# Altium integrated library Eink.IntLib: 75 symbols
Pins are listed as number, name and electrical type; pins without a type are passive.

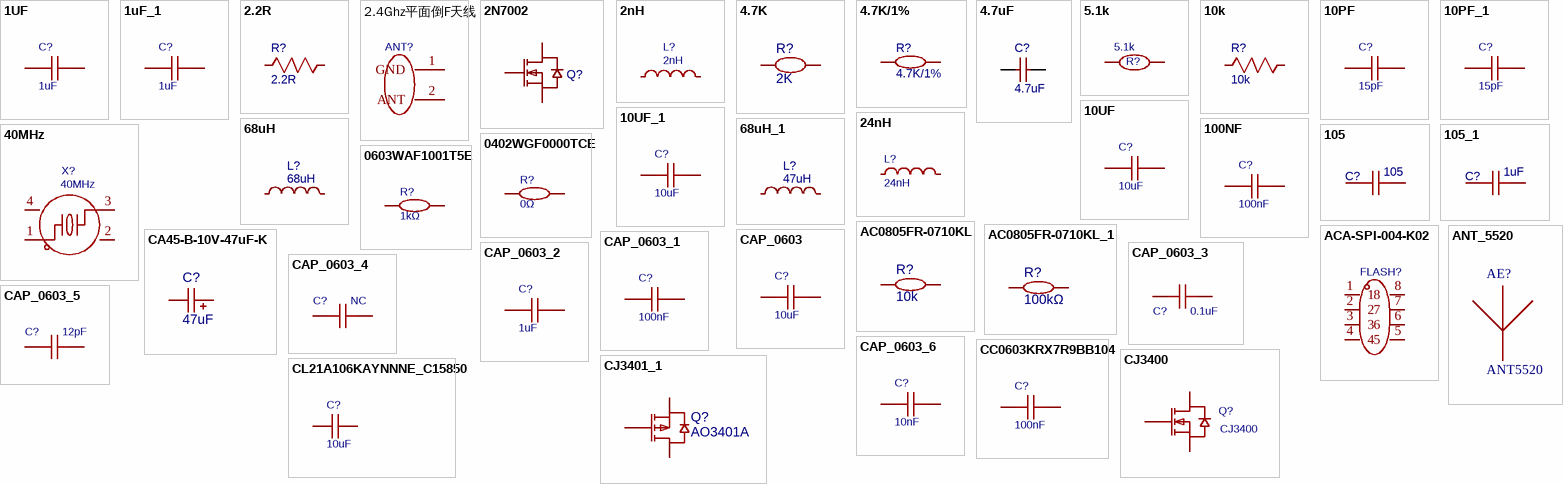
[diagram p0: symbols 1UF to CL21A106KAYNNNE_C15850]

## 1UF
designator C?, comment 1uF
Add into BOM: yes; Origin Footprint: C0603; ModelId: fca5be93b99f4b5a9a2fd372d58c31d9; Symbol: 1UF; Device: 1UF; Convert to PCB: yes; FootprintName: C0603; ModelName: C0603
footprint C0402
pins: 1, 2

## 1uF_1
designator C?, comment 1uF
Add into BOM: yes; Origin Footprint: C0603; ModelId: fca5be93b99f4b5a9a2fd372d58c31d9; Symbol: 1UF; Device: 1UF; Convert to PCB: yes; FootprintName: C0603; ModelName: C0603
footprint C0402
pins: 1, 2

## 2.2R
designator R?
nameAlias: Value(Ω); Contributor: LCEDA_Lib; spicePre: R; spiceSymbolName: R_0603_US
footprint R0603
pins: 1, 2

## 2.4Ghz平面倒F天线
designator ANT?  (value not drawn)
左侧ANT焊盘，2.4Ghz平面倒F天线，尺寸15.2×5.2mm; AddInBom: yes; Device: 2.4Ghz平面倒F天线; ConvertToPcb: yes; SymbolName: 2.4Ghz平面倒F天线; FootprintName: 2.4Ghz平面倒F天线
footprint 2.4Ghz平面倒F天线
pins: 1 GND, 2 ANT

## 2N7002
designator Q?  (value not drawn)
Manufacturer: Nexperia; Manufacturer Part: 2N7002,215; SMT Type: Extend; Contributor: LCEDA_Lib; Supplier: LCSC; image: //image.lceda.cn/szlcsc/C65189.jpg; Supplier Part: C469327; LCSC Assembly: Yes; spicePre: Q; spiceSymbolName: 2N7002
footprint SOT-23_L2.9-W1.3-P0.95-LS2.4-BR
pins: 1 G, 2 S, 3 D

## 2nH
designator L?
Add into BOM: yes; Origin Footprint: L0603; Symbol: 2nH; Device: 2nH; Convert to PCB: yes; FootprintName: L0603
footprint C0402
pins: 1, 2

## 4.7K
designator R?, comment 2K
Symbol: 4.7K; Add into BOM: yes; 3D Model: 6bd5cd867e9542ebae21caaf5d2d4c4d; 3D Model Transform: v2:[2.410722045565656e-15,39.37007874015748,0,-39.37007874015748,2.410722045565656e-15,0,0,0,39.37007874015748,0,0,0]; ModelName: R0603; Device: 4.7K; Convert to PCB: yes; FootprintName: R0603
footprint R0402
3D model R0603
pins: 1, 2

## 4.7K/1%
designator R?
nameAlias: Value(Ω); spicePre: R; spiceSymbolName: Resistor; Supplier: LCSC
footprint 0603_R_JX
pins: 1, 2

## 4.7uF
designator C?
Manufacturer: MuRata; Manufacturer Part: GRM31CR71H475KA12L; nameAlias: Capacitance; SMT Type: Extend; Supplier: LCSC; Supplier Part: C77096; JLCPCB SMD: Yes; spicePre: C; spiceSymbolName: GRM31CR71H475KA12L
footprint C1206_M
pins: 1, 2

## 5.1k
designator R?
Add into BOM: yes; Origin Footprint: R0603; ModelId: fc143cca1e79419f9cd78b61e9279f08; Symbol: 5.1k; Device: 5.1k; Convert to PCB: yes; FootprintName: R0603; ModelName: R0603
footprint R0402
pins: 1, 2

## 10k
designator R?
nameAlias: Value(Ω); Contributor: LCEDA_Lib; spicePre: R; spiceSymbolName: R_0603_US
footprint R0603
pins: 1, 2

## 10PF
designator C?, comment 15pF
Symbol: 10PF; Add into BOM: yes; ModelId: fca5be93b99f4b5a9a2fd372d58c31d9; ModelName: C0603; Device: 10PF; Convert to PCB: yes; FootprintName: C0603
footprint C0402
pins: 1, 2

## 10PF_1
designator C?, comment 15pF
Symbol: 10PF; Add into BOM: yes; ModelId: fca5be93b99f4b5a9a2fd372d58c31d9; ModelName: C0603; Device: 10PF; Convert to PCB: yes; FootprintName: C0603; Origin Footprint: C0603
footprint C0402
pins: 1, 2

## 10UF
designator C?, comment 10uF
Add into BOM: yes; Origin Footprint: C0603; ModelId: fca5be93b99f4b5a9a2fd372d58c31d9; Symbol: 10UF; Device: 10UF; Convert to PCB: yes; FootprintName: C0603; ModelName: C0603
footprint C0402
pins: 1, 2

## 10UF_1
designator C?, comment 10uF
Add into BOM: yes; Origin Footprint: C0603; ModelId: fca5be93b99f4b5a9a2fd372d58c31d9; Symbol: 10UF; Device: 10UF; Convert to PCB: yes; FootprintName: C0603; ModelName: C0603
footprint C0402
pins: 1, 2

## 24nH
designator L?
Add into BOM: yes; Origin Footprint: L0603; Symbol: 24nH; Device: 24nH; Convert to PCB: yes; FootprintName: L0603
footprint C0402
pins: 1, 2

## 40MHz
designator X?
Manufacturer: JGHC(晶光华); Add into BOM: yes; Origin Footprint: CRYSTAL-SMD_4P-L2.5-W2.0-BL; ModelId: d23e0abc26e54c15b6292fd5f43702fa; Symbol: 40MHz; Device: 40MHz; Convert to PCB: yes; Supplier: LCSC; Supplier Part: C555614; JLCPCB Part Class: Extended Part; FootprintName: CRYSTAL-SMD_4P-L2.5-W2.0-BL; ModelName: CRYSTAL-SMD_4P-L2.5-W2.0-BL
footprint CRYSTAL-SMD_4P-L2.5-W2.0-BL
pins: 1, 2 GND, 3, 4 GND

## 68uH
designator L?
Manufacturer: Sunlord; Manufacturer Part: SWPA6045S680MT; nameAlias: Inductance; Supplier: LCSC; Supplier Part: C53663; spicePre: L; spiceSymbolName: SWPA6045S680MT
footprint IND-SMD_L6.0-W6.0_FNR60XXS
footprint L_L3_W3
pins: 1, 2

## 68uH_1
designator L?, comment 47uH
Manufacturer: Sunlord; Manufacturer Part: SWPA6045S680MT; nameAlias: Inductance; Supplier: LCSC; Supplier Part: C53663; spicePre: L; spiceSymbolName: SWPA6045S680MT
footprint IND-SMD_L6.0-W6.0_FNR60XXS
pins: 1, 2

## 100NF
designator C?, comment 100nF
Add into BOM: yes; Origin Footprint: C0603; ModelId: fca5be93b99f4b5a9a2fd372d58c31d9; Symbol: 100NF; Device: 100NF; Convert to PCB: yes; FootprintName: C0603; ModelName: C0603
footprint C0402
pins: 1, 2

## 105
designator C?
nameAlias: Value(F); Contributor: LCEDA_Lib; spicePre: C; spiceSymbolName: C_0603_US
footprint C0603
pins: 1, 2

## 105_1
designator C?, comment 1uF
nameAlias: Value(F); Contributor: LCEDA_Lib; spicePre: C; spiceSymbolName: C_0603_US
footprint C0402
pins: 1, 2

## 0402WGF0000TCE
designator R?, comment value 0Ω  (hidden comment: 0r)
阻值:0Ω;精度:±1%;功率:62.5mW;温度系数:±800ppm/℃;电阻类型:厚膜电阻;; Manufacturer: UNI-ROYAL(厚声); Symbol: 0402WGF0000TCE; AddInBom: yes; ModelId: 671aefced39d4c318694bba8bd8efd39; ModelName: R0402_L1.0-W0.5-H0.5; ModelTransform: 39.37,19.685,0,0,0,0,0,0.0005,0; Tolerance: ±1%; Power(Watts): 62.5mW; Overload Voltage (Max): 50V; JLCPCB Part Class: Basic Part; Device: 0402WGF0000TCE; Supplier: LCSC; Manufacturer Part: 0402WGF0000TCE; Supplier Part: C17168; LCSC Part Name: 0Ω ±1% 62.5mW 厚膜电阻; Supplier Footprint: 0402; Datasheet: https://atta.szlcsc.com/upload/public/pdf/source/20200306/C422600_1E6D84923E4A46A82E41ADD87F860B5C.pdf; ConvertToPcb: yes; FootprintName: R0402; Temperature Coefficient: ±800ppm/℃; Type: 厚膜电阻; Operating Temperature Range: -55℃~+155℃
footprint R0402
pins: 1, 2

## 0603WAF1001T5E
designator R?, comment 1kΩ
电阻类型:厚膜电阻;阻值:1kΩ;精度:±1%;功率:100mW;工作电压:75V;温度系数:±100ppm/℃;; Manufacturer: UNI-ROYAL(厚声); Symbol: 0603WAF1001T5E; Add into BOM: yes; 3D Model: fc143cca1e79419f9cd78b61e9279f08; 3D Model Transform: 31.8897,63.7794,0,90,0,0,0,0,0; Tolerance: ±1%; Power(Watts): 100mW; Voltage-Supply(Max): 75V; ModelName: R0603; Device: 0603WAF1001T5E; Convert to PCB: yes; Supplier Part: C21190; Supplier: LCSC; Manufacturer Part: 0603WAF1001T5E; LCSC Part Name: 1kΩ ±1% 100mW 厚膜电阻; Supplier Footprint: 0603; JLCPCB Part Class: Basic Part; Datasheet: https://item.szlcsc.com/datasheet/0603WAF1001T5E/21904.html; Type: 厚膜电阻; Value: 1kΩ; Temperature Coefficient: ±100ppm/℃; Operating Temperature: -55℃~+155℃; FootprintName: R0603
footprint R0402
3D model R0603
pins: 1, 2

## AC0805FR-0710KL
designator R?, comment 10k
电阻类型:厚膜电阻;阻值:10kΩ;精度:±1%;功率:125mW;; Manufacturer: YAGEO(国巨); Symbol: 10K_1; Device: AC0805FR-0710KL; Add into BOM: yes; Origin Footprint: R0805; Resistance: 10kΩ; 3D Model: 37a81e68749a4138bd2dfa6897b24b85; 3D Model Transform: 78.74,51.181,0,0,0,0,0,-0.0005,0; Value: 10kΩ; Tolerance: ±1%; Power(Watts): 125mW; Temperature Coefficient: ±100ppm/℃; Overload Voltage (Max): 150V; ModelName: R0805_L2.0-W1.3-H0.6; Convert to PCB: yes; LCSC Part Name: 10kΩ ±1% 125mW; Supplier Part: C140868; Manufacturer Part: AC0805FR-0710KL; Supplier Footprint: 0805; JLCPCB Part Class: Extended Part; Datasheet: https://atta.szlcsc.com/upload/public/pdf/source/20171113/C140868_15105613027091115785.pdf; Supplier: LCSC; Type: 厚膜电阻; Operating Temperature Range: -55℃~+155℃; FootprintName: R0603
footprint R0402
3D model R0805_L2.0-W1.3-H0.6
pins: 1, 2

## AC0805FR-0710KL_1
designator R?, comment 100kΩ
电阻类型:厚膜电阻;阻值:10kΩ;精度:±1%;功率:125mW;; Manufacturer: YAGEO(国巨); Symbol: 10K_1; Device: AC0805FR-0710KL; Add into BOM: yes; Origin Footprint: R0805; 3D Model: 37a81e68749a4138bd2dfa6897b24b85; 3D Model Transform: 78.74,51.181,0,0,0,0,0,-0.0005,0; Tolerance: ±1%; Power(Watts): 125mW; Temperature Coefficient: ±100ppm/℃; Overload Voltage (Max): 150V; ModelName: R0805_L2.0-W1.3-H0.6; Convert to PCB: yes; Value: 100kΩ; Resistance: 100kΩ; LCSC Part Name: 10kΩ ±1% 125mW; Manufacturer Part: AC0805FR-0710KL; Supplier Footprint: 0805; JLCPCB Part Class: Extended Part; Datasheet: https://atta.szlcsc.com/upload/public/pdf/source/20171113/C140868_15105613027091115785.pdf; Supplier: LCSC; Type: 厚膜电阻; Operating Temperature Range: -55℃~+155℃; FootprintName: R0603
footprint R0402
3D model R0805_L2.0-W1.3-H0.6
pins: 1, 2

## ACA-SPI-004-K02
designator FLASH?  (value not drawn)
Manufacturer: LOTES(嘉澤端子); AddInBom: yes; Symbol: ACA-SPI-004-K02; Device: ACA-SPI-004-K02; LCSC Part Name: SPI 连接器; SupplierPart: C962129; ManufacturerPart: ACA-SPI-004-K02; Supplier Footprint: -; JLCPCB Part Class: 扩展库; Datasheet: https://atta.szlcsc.com/upload/public/pdf/source/20201125/C962129_3BCCA5D90998541809E80F476B537BA8.pdf; Supplier: LCSC; ConvertToPcb: yes; FootprintName: CONN-SMD_ACA-SPI-004-K02
footprint CONN-SMD_ACA-SPI-004-K02
pins: 1, 2, 3, 4, 5, 6, 7, 8

## ANT_5520
designator AE?, comment ANT5520
footprint ANT_5520
pins: 1 ANT, 2

## CA45-B-10V-47uF-K
designator C?, comment 47uF
容值:47uF;精度:±10%;额定电压:10V;等效串联电阻:2.4Ω@100kHz;; Manufacturer: CEC(振华新云); Device: CA45-B-10V-47uF-K; Add into BOM: yes; Origin Footprint: CAP-SMD_L3.5-W2.8-R-RD; 3D Model: b77bd53aeda446d2bdd09b0fdaf9418a; 3D Model Transform: 145.669,110.236,0,0,0,0,0,0,0; Tolerance: ±10%; Rated Voltage: 10V; ModelName: CASE-B_L3.5-W2.8-H1.9; Symbol: 47uF; Convert to PCB: yes; LCSC Part Name: 47uF ±10% 10V; Supplier Part: C136658; Manufacturer Part: CA45-B-10V-47uF-K; Supplier Footprint: CASE-B-3528; JLCPCB Part Class: Extended Part; Datasheet: https://atta.szlcsc.com/upload/public/pdf/source/20171123/C136658_15114108124621137439.pdf; Supplier: LCSC; Value: 47uF; Equivalent Series Resistance(ESR): 2.4Ω@100kHz; Operating Temperature: -55℃~+125℃; FootprintName: CASE-B_3528
footprint C0603
3D model CASE-B_L3.5-W2.8-H1.9
pins: 1, 2

## CAP_0603
designator C?  value 10uF  (hidden comment: CAP_0603)
ConvertToPcb: yes; SymbolName: CapAcitance; ModelId: ac125912035d415993ca9572d50418b1; ModelName: C0603_L1.6-W0.8-H0.8; ModelTransform: 62.992,31.496,0,0,0,0,0,0,0; Device: CAP_0603; AddInBom: yes; Supplier Footprint: 0603; FootprintName: C0402
footprint C0402
pins: 1, 2

## CAP_0603_1
designator C?, comment value 100nF  (hidden comment: CAP_0603)
ConvertToPcb: yes; SymbolName: CapAcitance; ModelId: ac125912035d415993ca9572d50418b1; ModelName: C0603_L1.6-W0.8-H0.8; ModelTransform: 62.992,31.496,0,0,0,0,0,0,0; Device: CAP_0603; AddInBom: yes; Supplier Footprint: 0603; FootprintName: C0402
footprint C0402
pins: 1, 2

## CAP_0603_2
designator C?, comment value 1uF  (hidden comment: CAP_0603)
ConvertToPcb: yes; SymbolName: CapAcitance; ModelId: ac125912035d415993ca9572d50418b1; ModelName: C0603_L1.6-W0.8-H0.8; ModelTransform: 62.992,31.496,0,0,0,0,0,0,0; Device: CAP_0603; AddInBom: yes; Supplier Footprint: 0603; FootprintName: C0402
footprint C0402
pins: 1, 2

## CAP_0603_3
designator C?, comment value 0.1uF  (hidden comment: CAP_0603)
ConvertToPcb: yes; SymbolName: CapAcitance; ModelId: ac125912035d415993ca9572d50418b1; ModelName: C0603_L1.6-W0.8-H0.8; ModelTransform: 62.992,31.496,0,0,0,0,0,0,0; Device: CAP_0603; AddInBom: yes; Supplier Footprint: 0603; FootprintName: C0402
footprint C0402
pins: 1, 2

## CAP_0603_4
designator C?, comment value NC  (hidden comment: CAP_0603)
ConvertToPcb: yes; SymbolName: CapAcitance; ModelId: ac125912035d415993ca9572d50418b1; ModelName: C0603_L1.6-W0.8-H0.8; ModelTransform: 62.992,31.496,0,0,0,0,0,0,0; Device: CAP_0603; AddInBom: yes; Supplier Footprint: 0603; FootprintName: C0402
footprint C0402
pins: 1, 2

## CAP_0603_5
designator C?, comment value 12pF  (hidden comment: CAP_0603)
ConvertToPcb: yes; SymbolName: CapAcitance; ModelId: ac125912035d415993ca9572d50418b1; ModelName: C0603_L1.6-W0.8-H0.8; ModelTransform: 62.992,31.496,0,0,0,0,0,0,0; Device: CAP_0603; AddInBom: yes; Supplier Footprint: 0603; FootprintName: C0402
footprint C0402
pins: 1, 2

## CAP_0603_6
designator C?, comment value 10nF  (hidden comment: CAP_0603)
ConvertToPcb: yes; SymbolName: CapAcitance; ModelId: ac125912035d415993ca9572d50418b1; ModelName: C0603_L1.6-W0.8-H0.8; ModelTransform: 62.992,31.496,0,0,0,0,0,0,0; Device: CAP_0603; AddInBom: yes; Supplier Footprint: 0603; FootprintName: C0402
footprint C0402
pins: 1, 2

## CC0603KRX7R9BB104
designator C?, comment 100nF
容值:100nF;精度:±10%;额定电压:50V;材质(温度系数):X7R;; Manufacturer: YAGEO(国巨); Symbol: CC0603KRX7R9BB104; 3D Model: ac125912035d415993ca9572d50418b1; 3D Model Transform: 62.992,31.496,0,0,0,0,0,0,0; Tolerance: ±10%; Voltage Rated: 50V; Temperature Coefficient: X7R; AddInBom: yes; ModelName: C0603_L1.6-W0.8-H0.8; Device: CC0603KRX7R9BB104; LCSC Part Name: 100nF ±10% 50V; Manufacturer Part: CC0603KRX7R9BB104; Supplier Footprint: 0603; JLCPCB Part Class: 基础库; Datasheet: https://atta.szlcsc.com/upload/public/pdf/source/20180910/C282072_33301C7F631E79921B82A8DAC6BCC5B3.pdf; Supplier: LCSC; Value: 100NF; ConvertToPcb: yes; FootprintName: C0603
footprint C0402
3D model C0603_L1.6-W0.8-H0.8
pins: 1, 2

## CJ3400
designator Q?
类型:N沟道;漏源电压(Vdss):30V;连续漏极电流(Id):5.8A;功率(Pd):350mW;导通电阻(RDS(on)@Vgs,Id):35mΩ@10V,5.8A;阈值电压(Vgs(th)@Id):1.4V@250uA;; Manufacturer: CJ(江苏长电/长晶); AddInBom: yes; ModelId: c62791f0466c4ae2a892c056b845b0ca; ModelName: SOT-23-3P_L2.9-W1.3-H1.0-LS2.4-P0.95; ModelTransform: 98.64468,114.173,0,180,0,0,0,0,0; Type: N沟道; Drain Source Voltage (Vdss): 30V; Power Dissipation (Pd): 350mW; Symbol: CJ3400; Device: CJ3400; LCSC Part Name: N沟道 30V 5.8A; SupplierPart: C19019; ManufacturerPart: CJ3400; Supplier Footprint: SOT-23; JLCPCB Part Class: Extended Part; Datasheet: https://atta.szlcsc.com/upload/public/pdf/source/20140809/1457707205786.pdf; Supplier: LCSC; ConvertToPcb: yes; FootprintName: SOT-23_L2.9-W1.3-P1.90-LS2.4-BR; Continuous Drain Current (Id): 5.8A; Drain Source On Resistance (RDS(on)@Vgs,Id): 35mΩ@10V,5.8A; Gate Threshold Voltage (Vgs(th)@Id): 1.4V@250uA
footprint SOT-23_L2.9-W1.3-P1.90-LS2.4-BR
pins: 1 G, 2 S, 3 D

## CJ3401_1
designator Q?, comment AO3401A
类型:P沟道;漏源电压(Vdss):30V;连续漏极电流(Id):4.2A;功率(Pd):350mW;导通电阻(RDS(on)@Vgs,Id):65mΩ@10V,4.2A;; Manufacturer: CJ(江苏长电/长晶); Symbol: CJ3401; Device: CJ3401_1; Add into BOM: yes; Origin Footprint: SOT-23-3_L2.9-W1.6-P1.90-LS2.8-BR; 3D Model: 89cb27a44ab2466697082bb9fd73a7d0; 3D Model Transform: 110.236,114.173,0,180,0,0,-0.005,0.0005,0; Type: P沟道; Drain Source Voltage (Vdss): 30V; Power Dissipation (Pd): 350mW; Gate Threshold Voltage (Vgs(th)@Id): 1.3V@250uA; ModelName: SOT-23-3L_L2.9-W1.6-H1.1-LS2.8-P0.95; Convert to PCB: yes; LCSC Part Name: P沟道 30V 4.2A; Supplier Part: C13799; Manufacturer Part: CJ3401; Supplier Footprint: SOT-23; JLCPCB Part Class: Extended Part; Datasheet: https://atta.szlcsc.com/upload/public/pdf/source/20140815/1457707217656.pdf; Supplier: LCSC; Continuous Drain Current (Id): 4.2A; Drain Source On Resistance (RDS(on)@Vgs,Id): 65mΩ@10V,4.2A; FootprintName: SOT-23-3_L2.9-W1.6-P1.90-LS2.8-BR_1
footprint SOT-23-3_L2.9-W1.6-P1.90-LS2.8-BR_1
3D model SOT-23-3L_L2.9-W1.6-H1.1-LS2.8-P0.95
pins: 1 G, 2 S, 3 D

## CL21A106KAYNNNE_C15850
designator C?, comment 10uF
容值:10uF;精度:±10%;额定电压:25V;材质(温度系数):X5R;; Manufacturer: SAMSUNG(三星); Symbol: CL21A106KAYNNNE; Device: CL21A106KAYNNNE_C15850; 3D Model: 1ba041120af144c991958decab20d241; 3D Model Transform: 78.74,51.181,0,0,0,0,0,0.0005,0; Tolerance: ±10%; Voltage Rated: 25V; Temperature Coefficient: X5R; AddInBom: yes; ModelName: C0805_L2.0-W1.3-H1.3; LCSC Part Name: 10uF ±10% 25V; Manufacturer Part: CL21A106KAYNNNE; Supplier Footprint: 0805; JLCPCB Part Class: 基础库; Datasheet: https://atta.szlcsc.com/upload/public/pdf/source/20160103/1457707679302.pdf; Supplier: LCSC; Value: 10UF; ConvertToPcb: yes; FootprintName: C0805
footprint C0402
3D model C0805_L2.0-W1.3-H1.3
pins: 1, 2

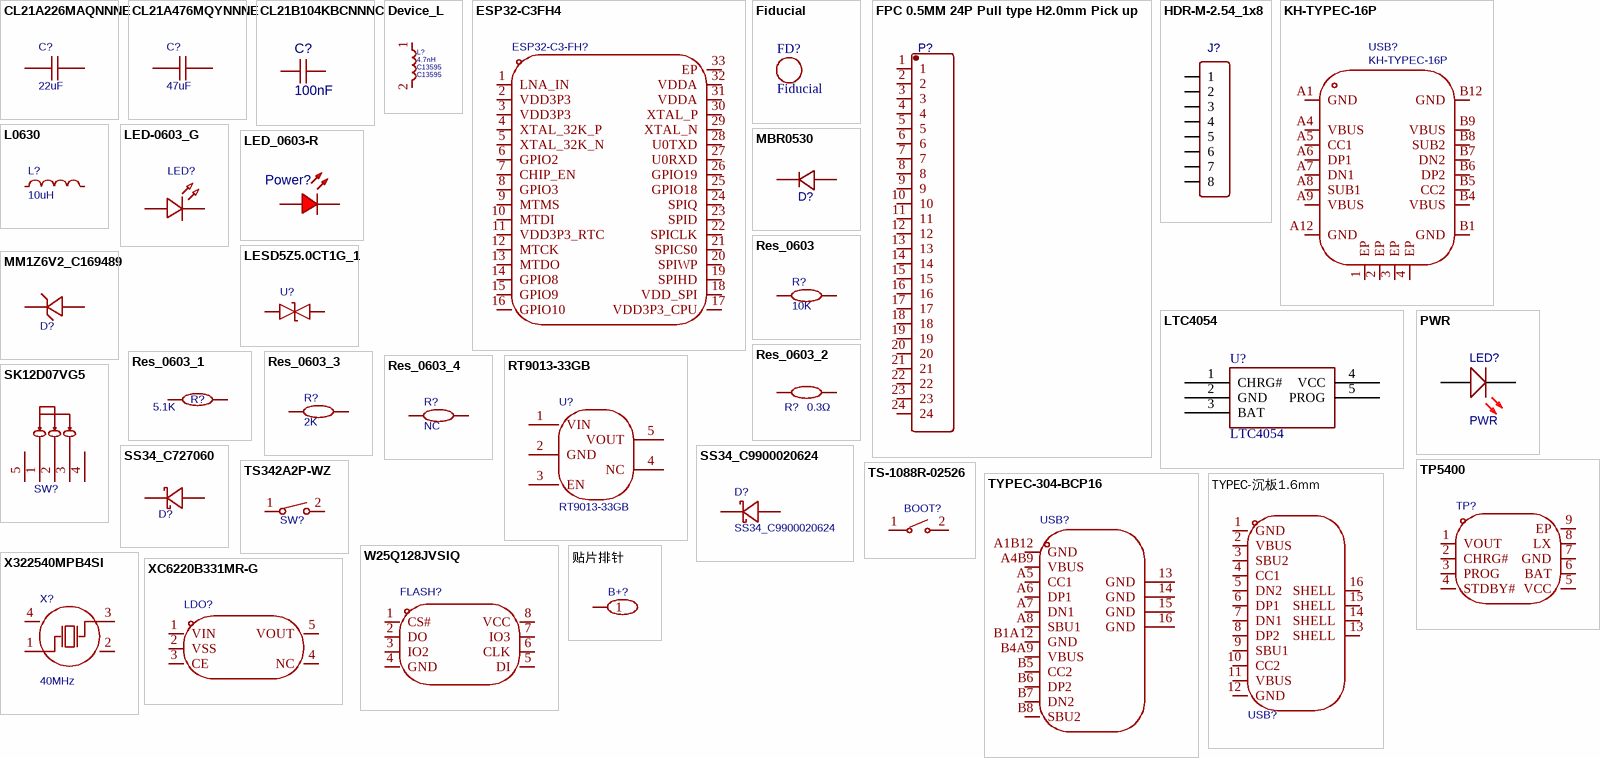
[diagram p1: symbols CL21A226MAQNNNE to 贴片排针]

## CL21A226MAQNNNE
designator C?  value 22uF  (hidden comment: CL21A226MAQNNNE)
容值:22uF;精度:±20%;额定电压:25V;材质(温度系数):X5R;; Manufacturer: SAMSUNG(三星); Symbol: CapAcitance; AddInBom: yes; ModelId: 1ba041120af144c991958decab20d241; ModelName: C0805_L2.0-W1.3-H1.3; ModelTransform: 78.74,51.181,0,0,0,0,0,0.0005,0; Tolerance: ±20%; Voltage Rated: 25V; Temperature Coefficient: X5R; Device: CL21A226MAQNNNE; LCSC Part Name: 22uF ±20% 25V; SupplierPart: C45783; ManufacturerPart: CL21A226MAQNNNE; Supplier Footprint: 0805; JLCPCB Part Class: Basic Part; Datasheet: https://atta.szlcsc.com/upload/public/pdf/source/20160218/1457707763339.pdf; Supplier: LCSC; ConvertToPcb: yes; FootprintName: C0805
footprint C0805
pins: 1, 2

## CL21A476MQYNNNE
designator C?  value 47uF  (hidden comment: CL21A476MQYNNNE)
容值:47uF;精度:±20%;额定电压:6.3V;材质(温度系数):X5R;; Manufacturer: SAMSUNG(三星); Symbol: CapAcitance; AddInBom: yes; ModelId: 1ba041120af144c991958decab20d241; ModelName: C0805_L2.0-W1.3-H1.3; ModelTransform: 78.74,51.181,0,0,0,0,0,0.0005,0; Tolerance: ±20%; Voltage Rated: 6.3V; Temperature Coefficient: X5R; Device: CL21A476MQYNNNE; LCSC Part Name: 47uF ±20% 6.3V; SupplierPart: C16780; ManufacturerPart: CL21A476MQYNNNE; Supplier Footprint: 0805; JLCPCB Part Class: Basic Part; Datasheet: https://atta.szlcsc.com/upload/public/pdf/source/20160218/1457707763339.pdf; Supplier: LCSC; ConvertToPcb: yes; FootprintName: C0805
footprint C0805
pins: 1, 2

## CL21B104KBCNNNC
designator C?, comment 100nF
容值:100nF;精度:±10%;额定电压:50V;材质(温度系数):X7R;; Manufacturer: SAMSUNG(三星); Symbol: 100nF_1; Device: CL21B104KBCNNNC; Add into BOM: yes; Origin Footprint: C0805; 3D Model: 1ba041120af144c991958decab20d241; 3D Model Transform: 78.74,51.181,0,0,0,0,0,0.0005,0; Tolerance: ±10%; Voltage Rated: 50V; Temperature Coefficient: X7R; ModelName: C0805_L2.0-W1.3-H1.3; Convert to PCB: yes; LCSC Part Name: 100nF ±10% 50V; Supplier Part: C1711; Manufacturer Part: CL21B104KBCNNNC; Supplier Footprint: 0805; JLCPCB Part Class: Extended Part; Datasheet: https://atta.szlcsc.com/upload/public/pdf/source/20160103/1457707693305.pdf; Supplier: LCSC; Value: 100nF; FootprintName: C0603
footprint C0402
3D model C0805_L2.0-W1.3-H1.3
pins: 1, 2

## Device_L
designator L?, comment value 4.7nH  MNF PART NUMBER: C13595  (hidden comment: 3nH)
Inductor; Device: Device_L; ki_keywords: inductor choke coil reactor magnetic; ki_fp_filters: Choke_* *Coil* Inductor_* L_*; UniqueId: 01f5988480b85854; Attribute1: L6; AddInBom: yes; Symbol: Device_L; UserDocLink: ~; LCSC: C13595; FootprintName: Inductor_SMD:L_0402_1005Metric
footprint C0402
pins: 1, 2

## ESP32-C3FH4
designator ESP32-C3-FH?  (value not drawn)
Manufacturer: ESPRESSIF(乐鑫); AddInBom: yes; ModelId: 1b373353bf024628a0546c2e0a05c449; ModelName: QFN-32_L5.0-W5.0-H0.9-P0.50-TL-EP3.7; ModelTransform: 196.85,196.85,0,0,0,0,0,0,0; Symbol: ESP32-C3FH4; Device: ESP32-C3FH4; Supplier: LCSC; Supplier Part: C2858491; Manufacturer Part: ESP32-C3FH4; JLCPCB Part Class: 扩展库; LCSC Part Name: ESP32-C3FH4; Supplier Footprint: QFN-32-EP(5x5); Datasheet: https://atta.szlcsc.com/upload/public/pdf/source/20231220/86199E4714F7A99F6AA9401EA48CDBDA.pdf; ConvertToPcb: yes; FootprintName: QFN-32_L5.0-W5.0-P0.50-TL-EP3.7
footprint QFN-32_L5.0-W5.0-P0.50-TL-EP3.7
pins: 1 LNA_IN, 2 VDD3P3, 3 VDD3P3, 4 XTAL_32K_P, 5 XTAL_32K_N, 6 GPIO2, 7 CHIP_EN, 8 GPIO3, 9 MTMS, 10 MTDI, 11 VDD3P3_RTC, 12 MTCK, 13 MTDO, 14 GPIO8, 15 GPIO9, 16 GPIO10, 17 VDD3P3_CPU, 18 VDD_SPI, 19 SPIHD, 20 SPIWP, 21 SPICS0, 22 SPICLK, 23 SPID, 24 SPIQ, 25 GPIO18, 26 GPIO19, 27 U0RXD, 28 U0TXD, 29 XTAL_N, 30 XTAL_P, 31 VDDA, 32 VDDA, 33 EP

## Fiducial
designator FD?
footprint FIDUCIAL_1MM

## FPC 0.5MM 24P Pull type H2.0mm Pick up
designator P?  (value not drawn)
Manufacturer: ReliaPro; spicePre: X; Supplier: LCSC; Manufacturer Part: FPC 0.5MM 24P Pull type H2.0mm Pick up; image: //image.lceda.cn/szlcsc/C11092.jpg; Supplier Part: C11092; spiceSymbolName: FPC 0.5MM 24P Pull type H2.0mm Pick up
footprint FPC-SMD_24P-L17.5-W5.4-P0.50
pins: 1, 2, 3, 4, 5, 6, 7, 8, 9, 10, 11, 12, 13, 14, 15, 16, 17, 18, 19, 20, 21, 22, 23, 24

## HDR-M-2.54_1x8
designator J?  (value not drawn)
Contributor: LCEDA_Lib; Supplier Part: C190820; Supplier: LCSC; spicePre: J; spiceSymbolName: HDR-M-2.54_1x8
footprint HDR-M-2.54_1X8
pins: 1, 2, 3, 4, 5, 6, 7, 8

## KH-TYPEC-16P
designator USB?
Add into BOM: yes; Origin Footprint: USB-TYPEC-16P-SMD; 是否验证: 是; Symbol: KH-TYPEC-16P; Device: KH-TYPEC-16P; Convert to PCB: yes; FootprintName: USB-TYPEC-16P
footprint USB-TYPEC-16P-SMD
pins: 1 EP, 2 EP, 3 EP, 4 EP, A1 GND, A4 VBUS, A5 CC1, A6 DP1, A7 DN1, A8 SUB1, A9 VBUS, A12 GND, B1 GND, B4 VBUS, B5 CC2, B6 DP2, B7 DN2, B8 SUB2, B9 VBUS, B12 GND

## L0630
designator L?  value 10uH  (hidden comment: L0630)
电感值:4.7uH;精度:±20%;额定电流:5.5A;饱和电流(Isat):7A;直流电阻(DCR):37mΩ;; Manufacturer: PSA(信昌电陶); ManufacturerPart: MCS0630-4R7MPY1; Symbol: SDFL1608S100KTF; AddInBom: yes; ModelId: f365aa58eec94c2a8dfc1404764b7425; ModelName: IND-SMD_L7.1-W6.6-H2.8; ModelTransform: 279.5,259.8,0,0,0,0,0,0,0; Tolerance: ±20%; Rated Current: 5.5A; Saturation Current (Isat): 7A; DC Resistance (DCR): 37mΩ; Device: L0630; Supplier Footprint: 0630; JLCPCB Part Class: Extended Part; Datasheet: https://atta.szlcsc.com/upload/public/pdf/source/20220121/EA6E6E6F70ED7BAE67EC293805EAAACB.pdf; Supplier: LCSC; ConvertToPcb: yes; FootprintName: IND-SMD_L7.3-W6.6
footprint IND-SMD_L7.3-W6.6
pins: 1, 2

## LED-0603_G
designator LED?  (value not drawn)
Manufacturer: EVERLIGHT(台湾亿光); Manufacturer Part: 19-217/GHC-YR1S2/3T; Add into BOM: yes; Origin Footprint: LED0603_GREEN; ModelId: 8b5fcaf0229049f8a37a9c352bb0ca0a; Symbol: LED-0603_G; Device: LED-0603_G; Convert to PCB: yes; Supplier Part: C72043; Supplier: LCSC; FootprintName: LED0603_GREEN; ModelName: LED-0603_G
footprint C0402
pins: 1, 2

## LED_0603-R
designator Power?
发光颜色:红灯;二极管配置:-;透镜颜色:无色透明;主波长:617.5nm;峰值波长:632nm;色温:-;光通量(25时):-;测试电流:5mA;正向电压(VF):2.2V;发光强度:28.5mcd;功率:60mW;发光角度:120°;安装方式:-;工作温度:-40~+85;; Symbol: LED_R; Convert to PCB: yes; 3D Model: dd8257b0d61a4cd7b68939a056e08095; 3D Model Transform: 58.72,29.4,22.03,0,0,0,0,0,0; Device: LED_0603-R; ModelName: LED-0603_R; Add into BOM: yes; Supplier Footprint: 0603; FootprintName: LED0603-RD_BLUE
footprint LED0603-RD_BLUE
3D model LED-0603_R
pins: 1 C, 2 A

## LESD5Z5.0CT1G_1
designator U?  (value not drawn)
极性:-;反向关断电压（典型值）:-;击穿电压（最小值）:-;箝位电压:-;峰值脉冲电流（10/1000us）:-;; Manufacturer: UMW(友台半导体); Symbol: LESD5Z5.0CT1G_C2833276; AddInBom: yes; ModelId: 8f56a03db567494d8f4c9d12aa52a741; ModelName: SOD-523_L1.2-W0.8-H0.7-LS1.6; ModelTransform: 62.992,31.496,0,0,0,0,0,0,0; Device: LESD5Z5.0CT1G_1; LCSC Part Name: LESD5Z5.0CT1G; SupplierPart: C2833276; ManufacturerPart: LESD5Z5.0CT1G; Supplier Footprint: SOD-523; Datasheet: https://atta.szlcsc.com/upload/public/pdf/source/20210528/C2833276_72F026E6C5BE6518124884AE424ECC3B.pdf; Supplier: LCSC; ConvertToPcb: yes; FootprintName: SOD-523_L1.2-W0.8-LS1.6-BI; Polarity: -; Voltage - Reverse Standoff (Typ): -; Voltage - Breakdown (Min): -; Voltage - Clamping (Max) @ Ipp: -; Current - Peak Pulse (10/1000μs): -
footprint SOD-523_L1.2-W0.8-LS1.6-BI
pins: 1, 2

## LTC4054
designator U?
footprint SOT-23-5_L3.0-W1.7-P0.95-LS2.8-BL
pins: 1 CHRG#, 2 GND, 3 BAT, 4 VCC, 5 PROG

## MBR0530
designator D?  (value not drawn)
Manufacturer: CJ; SMT Type: Extend; Supplier: LCSC; Manufacturer Part: MBR0530; image: //image.lceda.cn/szlcsc/C77336.jpg; Supplier Part: C77336; LCSC Assembly: Yes; spicePre: D; spiceSymbolName: MBR0530
footprint SOD-123_L2.8-W1.8-LS3.7-RD
pins: 1 C, 2 A

## MM1Z6V2_C169489
designator D?  (value not drawn)
二极管配置:独立式;稳压值(标称值):6.2V;稳压值(范围):5.8V~6.6V;功率:500mW;精度:±6%;; Manufacturer: 晶导微电子; AddInBom: yes; ModelId: 7884390a25fb4c08947731ebfba7e3f8; ModelName: SOD-123_L2.8-W1.8-LS3.7-RD; ModelTransform: 144.8816,62.992,0,0,0,0,0,0,0; Diode Configuration: 独立式; Zener Voltage (Nom): 6.2V; Reverse Leakage Current (Ir): 1uA@3V; Power Dissipation: 500mW; Zener Impedance (Zzt): 50Ω; Tolerance: ±6%; Symbol: MM1Z6V2_C169489; Device: MM1Z6V2_C169489; Supplier: LCSC; Supplier Part: C169489; Manufacturer Part: MM1Z6V2; JLCPCB Part Class: 扩展库; LCSC Part Name: MM1Z6V2; Supplier Footprint: SOD-123; Datasheet: https://atta.szlcsc.com/upload/public/pdf/source/20190326/C382779_93A8490AC8548BE170FED91286A619FB.pdf; ConvertToPcb: yes; FootprintName: SOD-123_L2.8-W1.8-LS3.7-RD; Zener Voltage (Range): 5.8V~6.6V
footprint SOD-123_L2.8-W1.8-LS3.7-RD
pins: 1, 2

## PWR
designator LED?
Supplier: LCSC; spicePre: L
footprint 0603_D_JX
pins: 1 A, 2 C

## Res_0603
designator R?  value 10K  (hidden comment: Res_0603)
Symbol: 电阻; ConvertToPcb: yes; ModelId: fc143cca1e79419f9cd78b61e9279f08; ModelName: R0603; ModelTransform: 31.8897,63.7794,0,90,0,0,0,0,0; Device: Res_0603; AddInBom: yes; Supplier Footprint: 0603; FootprintName: R0402
footprint R0402
pins: 1, 2

## Res_0603_1
designator R?, comment value 5.1K  (hidden comment: Res_0603)
Symbol: 电阻; ConvertToPcb: yes; ModelId: fc143cca1e79419f9cd78b61e9279f08; ModelName: R0603; ModelTransform: 31.8897,63.7794,0,90,0,0,0,0,0; Device: Res_0603; AddInBom: yes; Supplier Footprint: 0603; FootprintName: R0402
footprint R0402
pins: 1, 2

## Res_0603_2
designator R?, comment value 0.3Ω  (hidden comment: Res_0603)
Symbol: 电阻; ConvertToPcb: yes; ModelId: fc143cca1e79419f9cd78b61e9279f08; ModelName: R0603; ModelTransform: 31.8897,63.7794,0,90,0,0,0,0,0; Device: Res_0603; AddInBom: yes; Supplier Footprint: 0603; FootprintName: R0603
footprint R0603
pins: 1, 2

## Res_0603_3
designator R?, comment value 2K  (hidden comment: Res_0603)
Symbol: 电阻; ConvertToPcb: yes; ModelId: fc143cca1e79419f9cd78b61e9279f08; ModelName: R0603; ModelTransform: 31.8897,63.7794,0,90,0,0,0,0,0; Device: Res_0603; AddInBom: yes; Supplier Footprint: 0603; FootprintName: R0402
footprint R0402
pins: 1, 2

## Res_0603_4
designator R?, comment value NC  (hidden comment: Res_0603)
Symbol: 电阻; ConvertToPcb: yes; ModelId: fc143cca1e79419f9cd78b61e9279f08; ModelName: R0603; ModelTransform: 31.8897,63.7794,0,90,0,0,0,0,0; Device: Res_0603; AddInBom: yes; Supplier Footprint: 0603; FootprintName: R0402
footprint R0402
pins: 1, 2

## RT9013-33GB
designator U?
输出类型:固定;输出极性:正;最大输入电压:5.5V;输出电压:3.3V;输出电流:500mA;电源纹波抑制比(PSRR):50dB@(10kHz);; Manufacturer: RICHTEK(立锜); 3D Model: 0a2a1b8f50944f73965918ad6e5fe167; 3D Model Transform: 118.60433,114.173,0,90,0,0,0.0005,0.0005,0; Output Type: 固定; Output Polarity: 正; Number of Outputs: 1; Maximum Input Voltage: 5.5V; Output Voltage: 3.3V; Dropout Voltage: 400mV@(500mA); Quiescent Current (Ground Current): 50uA; Output Current: 500mA; AddInBom: yes; ModelName: SOT-23-5_L2.9-W1.6-H1.1-LS2.8-P0.95; Symbol: RT9013-33GB; Device: RT9013-33GB; LCSC Part Name: 输入5.5V 输出3.3V 500mA; Supplier Footprint: SOT-23-5; Datasheet: https://atta.szlcsc.com/upload/public/pdf/source/20150504/1457707282459.pdf; Power Supply Rejection Ratio (PSRR): 50dB@(10kHz); Noise: -; Feature: -; Operating Temperature: -40℃~+85℃; Supplier: LCSC; Manufacturer Part: RT9013-33GB; Supplier Part: C47773; JLCPCB Part Class: 扩展库; ConvertToPcb: yes; FootprintName: SOT-23-5_L3.0-W1.7-P0.95-LS2.8-BL
footprint SOT-23-5_L3.0-W1.7-P0.95-LS2.8-BL
3D model SOT-23-5_L2.9-W1.6-H1.1-LS2.8-P0.95
pins: 1 VIN, 2 GND, 3 EN, 4 NC, 5 VOUT

## SK12D07VG5
designator SW?  (value not drawn)
电路结构:单刀双掷;安装方式:侧插;开关颜色:-;额定电流(DC):500mA;额定电压(DC):50V;额定电流(AC):-;额定电压(AC):-;机械寿命:5千次;; Manufacturer: SHOU HAN(首韩); AddInBom: yes; ModelId: 773c51563d484e3a80810244c5d56a16; ModelName: SW-TH_L8.7-W4.4-H4.0-P2.0; ModelTransform: 338.582,279.527,0,0,0,0,0,-51.181,-125.984; Circuit: 单刀双掷; Pin Style: PC引脚; Switch Length: 8.7mm; Switch Width: 4.4mm; Switch Height: 4.7mm; Current Rating (DC): 500mA; Voltage Rating (DC): 50V; Mechanical Life: 5千次; Symbol: SK12D07VG5; Device: SK12D07VG5; Supplier: LCSC; Supplier Part: C431548; Manufacturer Part: SK12D07VG5; JLCPCB Part Class: 扩展库; LCSC Part Name: 两档位卧式拨动开关,柄长5MM; Supplier Footprint: 插件; Datasheet: https://atta.szlcsc.com/upload/public/pdf/source/20190925/C431548_D6571AEBDE139FDB1E6F8A4B1513A630.pdf; ConvertToPcb: yes; FootprintName: SW-TH_SK12D07VG5; Actuator Style: -; Mounting Style: 侧插; Actuator Color: -; Current Rating (AC): -; Voltage Rating (AC): -; Operating Temperature: -10℃~+50℃
footprint SW-TH_SK12D07VG5
pins: 1, 2, 3, 4, 5

## SS34_C727060
designator D?  (value not drawn)
二极管配置:独立式;正向压降(Vf):550mV@3A;直流反向耐压(Vr):40V;平均整流电流(Io):3A;; Manufacturer: TWGMC(台湾迪嘉); Manufacturer Part: SS34; AddInBom: yes; ModelId: 5b53cc1b87a148cc9fa13125be89f948; ModelName: SMA_L4.3-W2.5-LS5.0-RD; ModelTransform: 194.8815,98.425,0,0,0,0,0,0,0; Diode Configuration: 独立式; Reverse Voltage (Vr): 40V; Average Rectified Current (Io): 3A; Reverse Leakage Current (Ir): 500uA@40V; Symbol: SS34_C727060; Device: SS34_C727060; Supplier: LCSC; Supplier Part: C727060; JLCPCB Part Class: 扩展库; LCSC Part Name: 电压:40V 电流:3A; Supplier Footprint: SMA(DO-214AC); Datasheet: https://atta.szlcsc.com/upload/public/pdf/source/20200828/C727059_6599B6CAC5F3238B9C33E46794659DBE.pdf; ConvertToPcb: yes; FootprintName: SMA_L4.3-W2.5-LS5.0-RD; Forward Voltage (Vf@If): 550mV@3A
footprint SMA_L4.3-W2.5-LS5.0-RD
pins: 1 C, 2 A

## SS34_C9900020624
designator D?
Manufacturer: null; Add into BOM: yes; Origin Footprint: SMA_L4.3-W2.6-LS5.1-R-RD; ModelId: 6890bb9641474820a71fce2135ca3aaa; Symbol: SS34_C9900020624; Device: SS34_C9900020624; Convert to PCB: yes; Supplier: LCSC; Supplier Part: C9900020624; JLCPCB Part Class: Extended Part; FootprintName: SMA_L4.3-W2.6-LS5.1-R-RD; ModelName: SMA_L4.3-W2.6-LS5.1-R-RD
footprint SMA_L4.3-W2.6-LS5.1-R-RD
pins: 1 A, 2 K

## TP5400
designator TP?  (value not drawn)
Manufacturer: TOPPOWER(南京拓微); Symbol: TP5400_C2891434; AddInBom: yes; ModelId: d3e00daa36c445139c055a3b9efb85d2; ModelName: ESOP-8_L4.9-W3.9-H1.6-LS6.0-P1.27; ModelTransform: 240.157,192.913,0,90,0,0,0,0,0; Device: TP5400; LCSC Part Name: TP5400; SupplierPart: C2891434; ManufacturerPart: TP5400; Supplier Footprint: ESOP-8; JLCPCB Part Class: 扩展库; Datasheet: https://atta.szlcsc.com/upload/public/pdf/source/20210909/352D9D40D77A1DD73F7904E364EF004B.pdf; Supplier: LCSC; ConvertToPcb: yes; FootprintName: ESOP-8_L4.9-W3.9-P1.27-LS6.0-BL-EP
footprint ESOP-8_L4.9-W3.9-P1.27-LS6.0-BL-EP
pins: 1 VOUT, 2 CHRG#, 3 PROG, 4 STDBY#, 5 VCC, 6 BAT, 7 GND, 8 LX, 9 EP

## TS342A2P-WZ
designator SW?  (value not drawn)
Manufacturer: SHOU HAN(首韩); AddInBom: yes; ModelId: 63599cce708d48afbce1b0db00354477; ModelName: SW-SMD_L4.0-W2.9-H2-LS5.0; ModelTransform: 196.85,114.173,0,0,0,0,0,0,0; Symbol: TS342A2P-WZ; Device: TS342A2P-WZ; LCSC Part Name: 轻触开关 3*4*2 两脚小龟不带柱 250gf 黑色塑胶按钮; SupplierPart: C557591; ManufacturerPart: TS342A2P-WZ; Supplier Footprint: SMD; JLCPCB Part Class: Extended Part; Datasheet: https://atta.szlcsc.com/upload/public/pdf/source/20200519/C557591_B3A5A21584733303F06306F18577DA8B.pdf; Supplier: LCSC; ConvertToPcb: yes; FootprintName: SW-SMD_L4.0-W2.9-LS5.0
footprint SW-SMD_L4.0-W2.9-LS5.0
pins: 1, 2

## TS-1088R-02526
designator BOOT?  (value not drawn)
触点电流:50mA;额定电压(DC):12V;电路结构:单刀单掷;安装方式:立贴;按钮形状:圆形按钮;带灯:-;开关长度:3.9mm;开关宽度:2.93mm;开关高度:2.5mm;; Manufacturer: XUNPU(讯普); AddInBom: yes; ModelId: b26698b69f274ffabef8a26c7d0e5dd1; ModelName: SW-SMD_L3.9-W2.9-H2.0-LS4.8; ModelTransform: 188.976,114.174,0,0,0,0,0,0,0; Contact Current: 50mA; Voltage Rating (DC): 12V; Circuit: 单刀单掷; Actuator Style: 圆形按钮; Switch Length: 3.9mm; Switch Width: 2.93mm; Switch Height: 2.5mm; Symbol: TS-1088R-02526; Device: TS-1088R-02526; LCSC Part Name: 贴片无柱小龟轻触开关 260GF; SupplierPart: C455281; ManufacturerPart: TS-1088R-02526; Supplier Footprint: SMD,3x4x2.5mm; JLCPCB Part Class: 扩展库; Datasheet: https://atta.szlcsc.com/upload/public/pdf/source/20191118/C455281_EC5379764BC1462550DF64BBBFEA9579.pdf; Supplier: LCSC; ConvertToPcb: yes; FootprintName: SW-SMD_L3.9-W3.0-P4.45; Mounting Style: 立贴; With Lamp: -
footprint SW-SMD_L3.9-W3.0-P4.45
pins: 1, 2

## TYPEC-304-BCP16
designator USB?  (value not drawn)
连接器类型:Type-C;标准:USB 3.1;公母:母座;触点数量:16;端口数量:1;安装方式:卧贴;额定电流 - 电源:3A;工作温度范围:-25~+85;焊接温度(最大值):260;; Manufacturer: XUNPU(讯普); Welding Temperature (Max): 260; AddInBom: yes; ModelId: bb1eabbfbdeb4e438a7034f2ad448367; ModelName: USB-C-SMD_TYPEC-304-BCP16; ModelTransform: 352,305.1,0,0,0,0,0,-47.6,-39.4; Connector Type: Type-C; Gender: 母座; Number of Contacts: 16; Number of Ports: 1; Current Rating - Power (Max): 3A; Symbol: TYPEC-304-BCP16; Operating Temperature Range: -25~+85; Device: TYPEC-304-BCP16; LCSC Part Name: Type-C 母座 卧贴 停产 停产; SupplierPart: C720629; ManufacturerPart: TYPEC-304-BCP16; Supplier Footprint: SMD; JLCPCB Part Class: 扩展库; Datasheet: https://atta.szlcsc.com/upload/public/pdf/source/20220210/1FE0FEFF7D6A20C111212527D3DED014.pdf; Supplier: LCSC; ConvertToPcb: yes; FootprintName: USB-C-SMD_TYPEC-304-BCP16; Standard: USB 3.1; Mounting Style: 卧贴
footprint USB-C-SMD_TYPEC-304-BCP16
footprint USB-C-SMD_TYPEC-302-BRP16SC16
pins: 13 GND, 14 GND, 15 GND, 16 GND, A1B12 GND, A4B9 VBUS, A5 CC1, A6 DP1, A7 DN1, A8 SBU1, B1A12 GND, B4A9 VBUS, B5 CC2, B6 DP2, B7 DN2, B8 SBU2

## TYPEC-沉板1.6mm
designator USB?  (value not drawn)
连接器类型:Type-C;标准:USB 3.1;公母:母;端口数量:1;触点数量:16P;安装方式:沉板;额定电流 - 电源:5A;工作温度范围:-45℃~+85℃;焊接温度(最大值):260℃;; Manufacturer: XUNPU(讯普); ManufacturerPart: TYPEC-302-BRP16SC16; AddInBom: yes; ModelId: 83e9ad9c543d46a9a9a2dd567b3f71cf; ModelName: USB-C-SMD_TYPEC-302-BRP16SC16; ModelTransform: 454.33,283.464,0,0,0,0,0,-41.337,-62.992; Connector Type: Type-C; Gender: 母; Number of Ports: 1; Number of Contacts: 16P; Current Rating - Power (Max): 5A; Soldering Temperature(Max): 260℃; Symbol: TYPEC-沉板1.6mm; Device: TYPEC-沉板1.6mm; LCSC Part Name: Type-C 母 沉板; SupplierPart: C2835313; Supplier Footprint: SMD; JLCPCB Part Class: Extended Part; Datasheet: https://atta.szlcsc.com/upload/public/pdf/source/20210629/C2835313_96CAAD9C15DFF4F1D03DDC0B4E6AD92A.pdf; Supplier: LCSC; ConvertToPcb: yes; FootprintName: USB-C-SMD_TYPEC-302-BRP16SC16; Standard: USB 3.1; Mounting Style: 沉板; Operating Temperature Range: -45℃~+85℃
footprint USB-C-SMD_TYPEC-302-BRP16SC16
pins: 1 GND, 2 VBUS, 3 SBU2, 4 CC1, 5 DN2, 6 DP1, 7 DN1, 8 DP2, 9 SBU1, 10 CC2, 11 VBUS, 12 GND, 13 SHELL, 14 SHELL, 15 SHELL, 16 SHELL

## W25Q128JVSIQ
designator FLASH?  (value not drawn)
接口类型:-;存储容量:128Mbit;时钟频率(fc):-;; Manufacturer: WINBOND(华邦); Symbol: W25Q128JVSIQTR; AddInBom: yes; ModelId: f83d990ad74f400caf5ac920b7771508; ModelName: SOIC-8_L5.3-W5.3-H1.9-LS7.9-P1.27; ModelTransform: 208.661,311.25654,0,0,0,0,-0.0005,0.0005,0; Device: W25Q128JVSIQ; Supplier: LCSC; Manufacturer Part: W25Q128JVSIQ; Supplier Part: C97521; JLCPCB Part Class: 基础库; LCSC Part Name: W25Q128JVSIQ 编带; Supplier Footprint: SOIC-8-208mil; Datasheet: https://atta.szlcsc.com/upload/public/pdf/source/20170316/1489627409956.pdf; ConvertToPcb: yes; FootprintName: SOIC-8_L5.3-W5.3-P1.27-LS8.0-BL; Interface Type: -; Memory Size: 128Mbit; Clock Frequency (fc): -; Supply Voltage: -; Supply Current (Read): -; Supply Current (Program): -; Supply Current (Erase): -; Standby supply current: -; Page Programming Time (Tpp): -; Block Erase Time (tBE): -; Data Retention - TDR (Year): -; Operating Temperature: -
footprint SOIC-8_L5.3-W5.3-P1.27-LS8.0-BL
pins: 1 CS#, 2 DO, 3 IO2, 4 GND, 5 DI, 6 CLK, 7 IO3, 8 VCC

## X322540MPB4SI
designator X?  value 40MHz  (hidden comment: X322540MPB4SI)
晶振类型:贴片晶振;频率:40MHz;常温频差:±10ppm;外接负载电容:15pF;频率稳定度(全温):±30ppm;; Manufacturer: YXC(扬兴晶振); AddInBom: yes; ModelId: ae22b8d143894765bc8100c37cb6356f; ModelName: OSC-SMD_4P-L3.2-W2.5-H1.0; ModelTransform: 125.984,98.425,0,0,0,0,0,0,0; Crystal Type: 贴片晶振; Normal temperature Frequency Tolerance: ±10ppm; External load capacitor: 15pF; Frequency Stability(Full temperature range): ±30ppm; Symbol: X322540MPB4SI; Device: X322540MPB4SI; Supplier: LCSC; Manufacturer Part: X322540MPB4SI; Supplier Part: C9010; JLCPCB Part Class: 扩展库; LCSC Part Name: 40MHz ±10ppm 15pF; Supplier Footprint: SMD3225-4P; Datasheet: https://atta.szlcsc.com/upload/public/pdf/source/20210329/C112971_1F611BDC486E193C1706F6D8EB5AA189.pdf; ConvertToPcb: yes; FootprintName: OSC-SMD_4P-L3.2-W2.5-BL_SIT8008BI; Operating Temperature: -40℃~+85℃
footprint OSC-SMD_4P-L3.2-W2.5-BL_SIT8008BI
pins: 1 OSC1, 2 GND, 3 OSC2, 4 GND

## XC6220B331MR-G
designator LDO?  (value not drawn)
输出类型:固定;输出极性:正;输出通道数:1;最大输入电压:6V;输出电压:3.3V;压差:655mV@(1A);输出电流:1A;电源纹波抑制比(PRSS):50dB@(1kHz);; AddInBom: yes; ModelId: 2af5e521bdd54ca3a4af644424b5a864; ModelName: SOT-25-5_L3.0-W1.6-H1.3-LS2.8-P0.95; ModelTransform: 110.7,118.1,0,180,0,0,-2.5,2.5,0; Output Type: 固定; Output Polarity: 正; Number of Outputs: 1; Maximum Input Voltage: 6V; Output Voltage: 3.3V; Symbol: XC6220B331MR-G; Device: XC6220B331MR-G; LCSC Part Name: Vin=6V Vout=3.3V 1A 50dB@(1kHz); Supplier Footprint: SOT-25; JLCPCB Part Class: 扩展库; Datasheet: https://atta.szlcsc.com/upload/public/pdf/source/20161119/1479540186106.pdf; ConvertToPcb: yes; FootprintName: SOT-25-5_L3.0-W1.8-P0.95-LS3.0-BR; Dropout Voltage: 655mV@(1A); Output Current: 1A; Power Supply Rejection Ratio (PRSS): 50dB@(1kHz)
footprint SOT-25-5_L3.0-W1.8-P0.95-LS3.0-BR
pins: 1 VIN, 2 VSS, 3 CE, 4 NC, 5 VOUT

## 贴片排针
designator B+?  (value not drawn)
AddInBom: yes; Device: 贴片排针; ConvertToPcb: yes; SymbolName: 贴片排针; FootprintName: 贴片排针
footprint 贴片排针
pins: 1